# Altium schematic symbol library E48SC12030NRFH.SchLib: 1 symbol
Pins are listed as number, name and electrical type; pins without a type are passive.

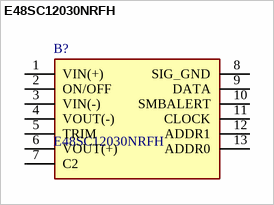
[diagram p0: symbol E48SC12030NRFH]

## E48SC12030NRFH
designator B?
Isolated DC/DC Converters - Through Hole DC/DC Converter, 1/8 Brick, 12Vout, 30A; Manufacturer_Name: Delta Electronics; Geometry.Height: 13.2mm; Mouser Part Number: *; Mouser Price/Stock: *; Manufacturer_Part_Number: E48SC12030NRFH; Datasheet Link: https://filecenter.deltaww.com/products/download/01/0102/datasheet/DS_E48SC12030.pdf
footprint E48SC12030NRFH
pins: 1 VIN(+), 2 ON/OFF, 3 VIN(-), 4 VOUT(-), 5 TRIM, 6 VOUT(+), 7 C2, 8 SIG_GND, 9 DATA, 10 SMBALERT, 11 CLOCK, 12 ADDR1, 13 ADDR0